# EAGLE library part GP-GC021 (library custom)
GP-GC021 is a Class 2 Bluetooth module using BlueCore4-AudioROM chipset from leading Bluetooth chipset supplier Cambridge Silicon Radio. GL-6B interfaces up to 8Mbit of 16-bit external Flash memory. When used with the CSR Bluetooth software stack, it provides a Bluetooth specification V2.0+EDR fully compliant system for data and voice communications.
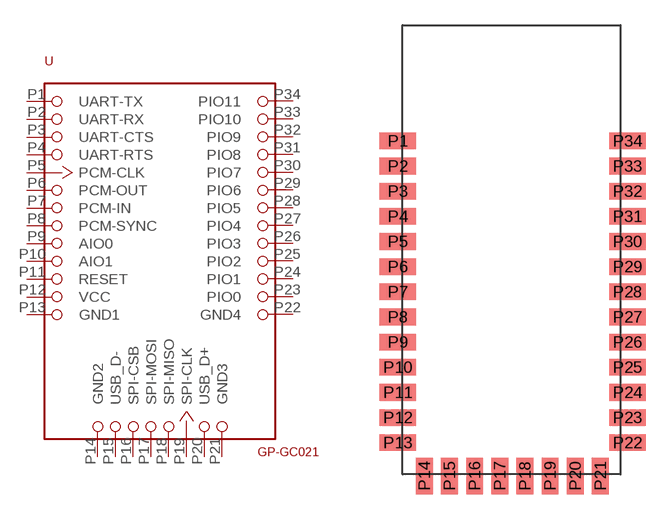
[diagram p17: symbol with the pads of GP-GC021; footprint GP-GC021]

Designator prefix -

## GP-GC021  [GP-GC021]
P1  UART-TX  out
P2  UART-RX  in
P3  UART-CTS  in
P4  UART-RTS  out
P5  PCM-CLK
P6  PCM-OUT  out
P7  PCM-IN  in
P8  PCM-SYNC
P9  AIO0
P10  AIO1
P11  RESET
P12  VCC  sup
P13  GND1  pwr
P14  GND2  pwr
P15  USB_D-
P16  SPI-CSB
P17  SPI-MOSI
P18  SPI-MISO
P19  SPI-CLK
P20  USB_D+
P21  GND3  pwr
P22  GND4  pwr
P23  PIO0
P24  PIO1
P25  PIO2
P26  PIO3
P27  PIO4
P28  PIO5
P29  PIO6
P30  PIO7
P31  PIO8
P32  PIO9
P33  PIO10
P34  PIO11

## Footprint GP-GC021 (pad centres in mm)
smd 2.184 x 1: P1 -0.289,-6.909; P2 -0.289,-8.409; P3 -0.289,-9.909; P4 -0.289,-11.409; P5 -0.289,-12.909; P6 -0.289,-14.409; P7 -0.289,-15.909; P8 -0.289,-17.409; P9 -0.289,-18.909; P10 -0.289,-20.409; P11 -0.289,-21.909; P12 -0.289,-23.409; P13 -0.289,-24.909; P22 13.411,-24.909; P23 13.411,-23.409; P24 13.411,-21.909; P25 13.411,-20.409; P26 13.411,-18.909; P27 13.411,-17.409; P28 13.411,-15.909; P29 13.411,-14.409; P30 13.411,-12.909; P31 13.411,-11.409; P32 13.411,-9.909; P33 13.411,-8.409; P34 13.411,-6.909
smd 1 x 2.184: P14 1.3,-26.9; P15 2.8,-26.9; P16 4.3,-26.9; P17 5.8,-26.9; P18 7.3,-26.9; P19 8.8,-26.9; P20 10.3,-26.9; P21 11.8,-26.9